# EAGLE library part 74*12 (library std-logic-74xx)
Triple 3-input NAND gate, open collector
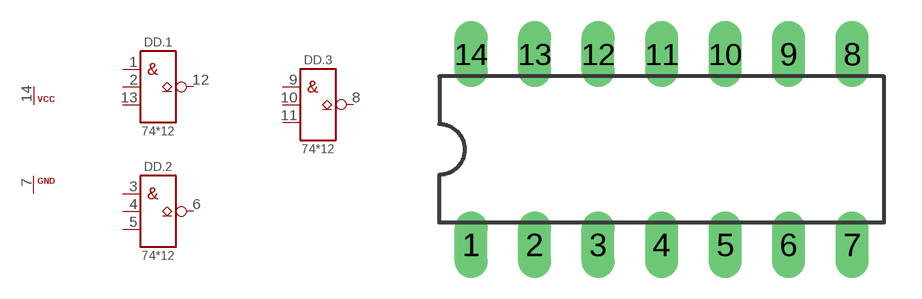
[diagram p176: symbol with the pads of DIL14; footprint DIL14]

Designator prefix DD; gates .1=7412 .2=7412 .3=7412 G$1=PWRN-4CELLS

## 7412N, 74LS12N  [DIL14]
1  .1:I0  in
2  .1:I1  in
3  .2:I0  in
4  .2:I1  in
5  .2:I2  in
6  .2:O  oc
7  G$1:GND  pwr
8  .3:O  oc
9  .3:I0  in
10  .3:I1  in
11  .3:I2  in
12  .1:O  oc
13  .1:I2  in
14  G$1:VCC  pwr

## Footprint DIL14 (pad centres in mm)
Dual In Line Package
drill 0.813 long: 1 -7.62,-3.81; 2 -5.08,-3.81; 3 -2.54,-3.81; 4 0,-3.81; 5 2.54,-3.81; 6 5.08,-3.81; 7 7.62,-3.81; 8 7.62,3.81; 9 5.08,3.81; 10 2.54,3.81; 11 0,3.81; 12 -2.54,3.81; 13 -5.08,3.81; 14 -7.62,3.81